# EAGLE library part TXU0204BQAR (library TXU0204BQAR)
TXU0204 is a 4-bit, dual-supply noninverting fixed direction voltage level translation device. Source: Datasheet <https://www.ti.com/lit/ds/symlink/txu0204.pdf?ts=1625930454609>
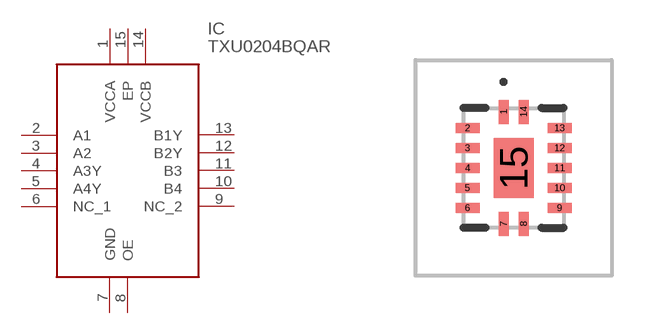
[diagram p0: symbol with the pads of TXU0204BQAR; footprint TXU0204BQAR]

Designator prefix IC

## TXU0204BQAR (Arrow_Part_Number: TXU0204BQAR; Arrow_Price-Stock: https://www.arrow.com/en/products/txu0204bqar/texas-instruments?utm_currency=USD&region=europe; Description: TXU0204 is a 4-bit, dual-supply noninverting fixed direction voltage level translation device.; Height: 0.8mm; Manufacturer_Name: Texas Instruments; Manufacturer_Part_Number: TXU0204BQAR; Mouser_Part_Number: 595-TXU0204BQAR; Mouser_Price-Stock: https://www.mouser.co.uk/ProductDetail/Texas-Instruments/TXU0204BQAR?qs=QNEnbhJQKvZCd1v9XZcqJQ%3D%3D)  [TXU0204BQAR]
1  VCCA
2  A1
3  A2
4  A3Y
5  A4Y
6  NC_1
7  GND
8  OE
9  NC_2
10  B4
11  B3
12  B2Y
13  B1Y
14  VCCB
15  EP

## Footprint TXU0204BQAR (pad centres in mm)
BQA0014A_
smd 0.25 x 0.6: 1 -0.25,1.4; 7 -0.25,-1.4; 8 0.25,-1.4; 14 0.25,1.4
smd 0.6 x 0.25: 2 -1.15,1; 3 -1.15,0.5; 4 -1.15,0; 5 -1.15,-0.5; 6 -1.15,-1; 9 1.15,-1; 10 1.15,-0.5; 11 1.15,0; 12 1.15,0.5; 13 1.15,1
smd 1 x 1.5: 15 0,0